# Altium integrated library Linear Technology Power Management LED Driver ICs.IntLib: 490 symbols (part 16 of 48)
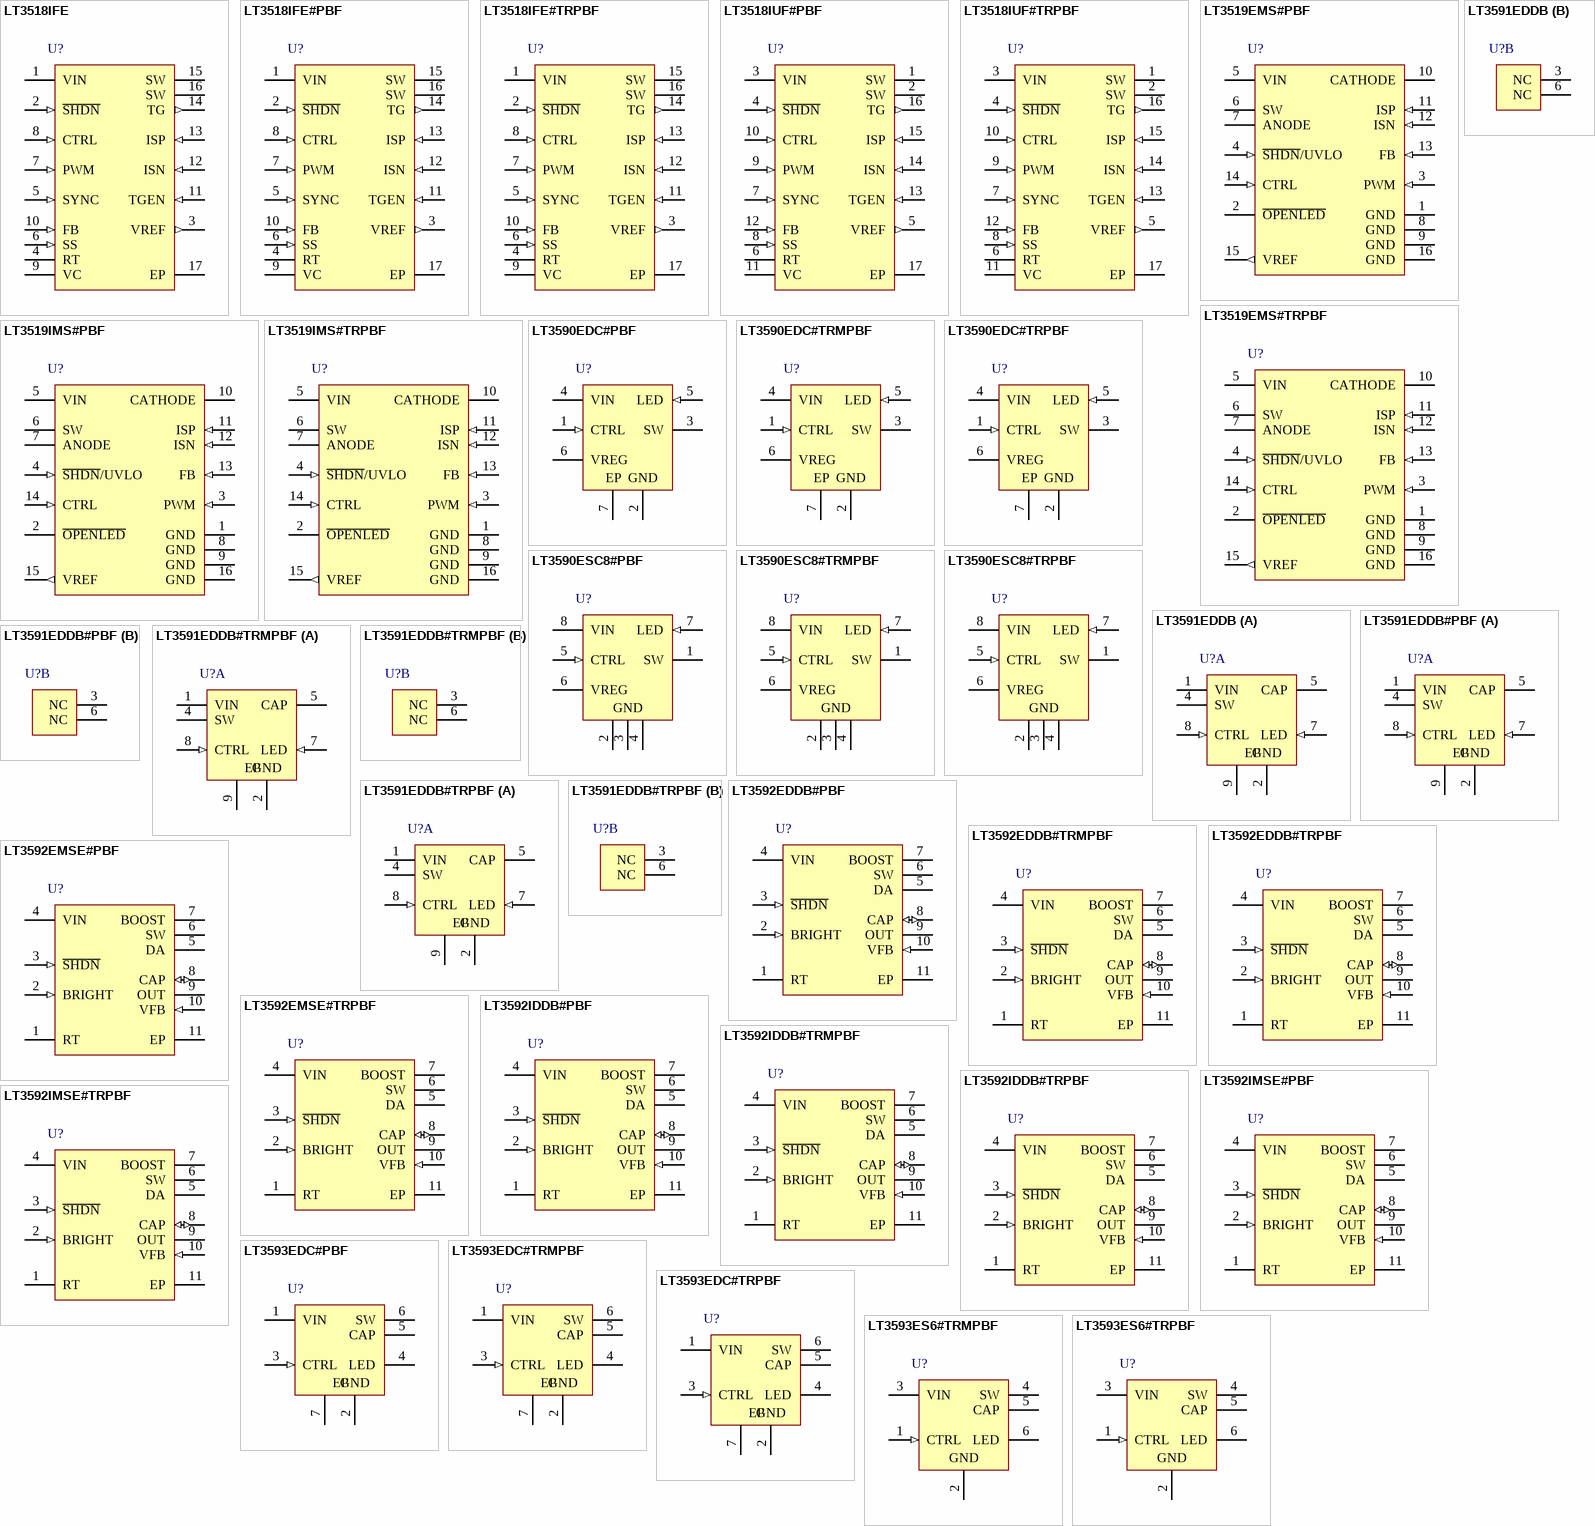
[diagram p35: symbols LT3518IFE to LT3593ES6#TRPBF]

## LT3591EDDB
designator U?
White LED Driver with Integrated Schottky, 2.5 to 12 V Vin, 42 V Vout MAX, 8-pin SON (DDB-8), -40 to 85 degC; Manufacturer: Linear Technology; PartNumber: LT3591EDDB; Topology: Boost, LED Driver; Vin Min(V): 2.5; PackageVersion: Rev. B, 06/2010; PackageReference: DDB-8; PackageDescription: 8-Pin Plastic DFN, Body 3 x 2 mm, Pitch 0.5 mm; RoHS: FALSE; Mounting Technology: Surface Mount; Code_JEDEC: MO-229; ComponentLink1Description: Manufacturer URL; ComponentLink1URL: http://www.linear.com/; ComponentLink2Description: Datasheet; ComponentLink2URL: http://cds.linear.com/docs/en/datasheet/3591f.pdf; ComponentLink3Description: Package Specification; ComponentLink3URL: http://cds.linear.com/docs/en/packaging/DFN_8_05-08-1702.pdf
footprint LT-DDB-8_V (SON, 8-Leads, Body 3x2mm, Pitch 0.5mm, Thermal Pad 2.2x0.61mm)
part A pins: 1 VIN (power) "Input Supply Pin. Must be locally bypassed.", 2 GND (power) "Ground Pin. Should be tied directly to local ground plane.", 4 SW "Switch Pin. Minimize trace area at this pin to minimize EMI. Connect the inductor at this pin.", 5 CAP (power) "Output of the Driver. This pin is connected to the cathode of internal Schottky. Connect the output capacitor to this pin and the sense resistor from this pin to the LED pin.", 7 LED (in) "Connection Point for the Anode of the First LED and the Sense Resistor.", 8 CTRL (in) "Dimming and Shutdown Pin. Connect this pin below 50mV to disable the driver. As the pin voltage is ramped from 0V to 1.5V, the LED current ramps from 0 to ILED ( = 200mV/RSENSE). The CTRL pin must not be left floating.", 9 EP (power) "Ground. The Exposed Pad must be soldered to PCB ground to achieve the rated thermal performance."
part B pins: 3 NC, 6 NC

## LT3591EDDB#PBF
designator U?
White LED Driver with Integrated Schottky, 2.5 to 12 V Vin, 42 V Vout MAX, 8-pin SON (DDB-8), -40 to 85 degC, Pb-Free; Manufacturer: Linear Technology; PartNumber: LT3591EDDB#PBF; Topology: Boost, LED Driver; Vin Min(V): 2.5; PackageVersion: Rev. B, 06/2010; PackageReference: DDB-8; PackageDescription: 8-Pin Plastic DFN, Body 3 x 2 mm, Pitch 0.5 mm; Supplier 1: Farnell; Supplier Part Number 1: 2308213; Supplier 2: Newark; Supplier Part Number 2: 78T4029; RoHS: TRUE; Mounting Technology: Surface Mount; Code_JEDEC: MO-229; ComponentLink1Description: Manufacturer URL; ComponentLink1URL: http://www.linear.com/; ComponentLink2Description: Datasheet; ComponentLink2URL: http://cds.linear.com/docs/en/datasheet/3591f.pdf; ComponentLink3Description: Package Specification; ComponentLink3URL: http://cds.linear.com/docs/en/packaging/DFN_8_05-08-1702.pdf
footprint LT-DDB-8_V (SON, 8-Leads, Body 3x2mm, Pitch 0.5mm, Thermal Pad 2.2x0.61mm)
part A pins: 1 VIN (power) "Input Supply Pin. Must be locally bypassed.", 2 GND (power) "Ground Pin. Should be tied directly to local ground plane.", 4 SW "Switch Pin. Minimize trace area at this pin to minimize EMI. Connect the inductor at this pin.", 5 CAP (power) "Output of the Driver. This pin is connected to the cathode of internal Schottky. Connect the output capacitor to this pin and the sense resistor from this pin to the LED pin.", 7 LED (in) "Connection Point for the Anode of the First LED and the Sense Resistor.", 8 CTRL (in) "Dimming and Shutdown Pin. Connect this pin below 50mV to disable the driver. As the pin voltage is ramped from 0V to 1.5V, the LED current ramps from 0 to ILED ( = 200mV/RSENSE). The CTRL pin must not be left floating.", 9 EP (power) "Ground. The Exposed Pad must be soldered to PCB ground to achieve the rated thermal performance."
part B pins: 3 NC, 6 NC

## LT3591EDDB#TRMPBF
designator U?
White LED Driver with Integrated Schottky, 2.5 to 12 V Vin, 42 V Vout MAX, 8-pin SON (DDB-8), -40 to 85 degC, Pb-Free, Mini Tape and Reel; Manufacturer: Linear Technology; PartNumber: LT3591EDDB#TRMPBF; Topology: Boost, LED Driver; Vin Min(V): 2.5; PackageVersion: Rev. B, 06/2010; PackageReference: DDB-8; PackageDescription: 8-Pin Plastic DFN, Body 3 x 2 mm, Pitch 0.5 mm; Supplier 1: Digi-Key; Supplier Part Number 1: LT3591EDDB#TRMPBFTR-ND; Supplier 2: Digi-Key; Supplier Part Number 2: LT3591EDDB#TRMPBFCT-ND; Supplier 3: Digi-Key; Supplier Part Number 3: LT3591EDDB#TRMPBFDKR-ND; Supplier 4: Farnell; Supplier Part Number 4: 1663840; Supplier 5: Farnell; Supplier Part Number 5: 1663840RL; Supplier 6: Newark; Supplier Part Number 6: 57M8538; Packing: Mini Tape and Reel; RoHS: TRUE; Mounting Technology: Surface Mount; Code_JEDEC: MO-229; ComponentLink1Description: Manufacturer URL; ComponentLink1URL: http://www.linear.com/; ComponentLink2Description: Datasheet; ComponentLink2URL: http://cds.linear.com/docs/en/datasheet/3591f.pdf; ComponentLink3Description: Package Specification; ComponentLink3URL: http://cds.linear.com/docs/en/packaging/DFN_8_05-08-1702.pdf
footprint LT-DDB-8_V (SON, 8-Leads, Body 3x2mm, Pitch 0.5mm, Thermal Pad 2.2x0.61mm)
part A pins: 1 VIN (power) "Input Supply Pin. Must be locally bypassed.", 2 GND (power) "Ground Pin. Should be tied directly to local ground plane.", 4 SW "Switch Pin. Minimize trace area at this pin to minimize EMI. Connect the inductor at this pin.", 5 CAP (power) "Output of the Driver. This pin is connected to the cathode of internal Schottky. Connect the output capacitor to this pin and the sense resistor from this pin to the LED pin.", 7 LED (in) "Connection Point for the Anode of the First LED and the Sense Resistor.", 8 CTRL (in) "Dimming and Shutdown Pin. Connect this pin below 50mV to disable the driver. As the pin voltage is ramped from 0V to 1.5V, the LED current ramps from 0 to ILED ( = 200mV/RSENSE). The CTRL pin must not be left floating.", 9 EP (power) "Ground. The Exposed Pad must be soldered to PCB ground to achieve the rated thermal performance."
part B pins: 3 NC, 6 NC

## LT3591EDDB#TRPBF
designator U?
White LED Driver with Integrated Schottky, 2.5 to 12 V Vin, 42 V Vout MAX, 8-pin SON (DDB-8), -40 to 85 degC, Pb-Free, Tape and Reel; Manufacturer: Linear Technology; PartNumber: LT3591EDDB#TRPBF; Topology: Boost, LED Driver; Vin Min(V): 2.5; PackageVersion: Rev. B, 06/2010; PackageReference: DDB-8; PackageDescription: 8-Pin Plastic DFN, Body 3 x 2 mm, Pitch 0.5 mm; Supplier 1: Digi-Key; Supplier Part Number 1: LT3591EDDB#TRPBF-ND; Supplier 2: Newark; Supplier Part Number 2: 57M8539; Packing: Tape and Reel; RoHS: TRUE; Mounting Technology: Surface Mount; Code_JEDEC: MO-229; ComponentLink1Description: Manufacturer URL; ComponentLink1URL: http://www.linear.com/; ComponentLink2Description: Datasheet; ComponentLink2URL: http://cds.linear.com/docs/en/datasheet/3591f.pdf; ComponentLink3Description: Package Specification; ComponentLink3URL: http://cds.linear.com/docs/en/packaging/DFN_8_05-08-1702.pdf
footprint LT-DDB-8_V (SON, 8-Leads, Body 3x2mm, Pitch 0.5mm, Thermal Pad 2.2x0.61mm)
part A pins: 1 VIN (power) "Input Supply Pin. Must be locally bypassed.", 2 GND (power) "Ground Pin. Should be tied directly to local ground plane.", 4 SW "Switch Pin. Minimize trace area at this pin to minimize EMI. Connect the inductor at this pin.", 5 CAP (power) "Output of the Driver. This pin is connected to the cathode of internal Schottky. Connect the output capacitor to this pin and the sense resistor from this pin to the LED pin.", 7 LED (in) "Connection Point for the Anode of the First LED and the Sense Resistor.", 8 CTRL (in) "Dimming and Shutdown Pin. Connect this pin below 50mV to disable the driver. As the pin voltage is ramped from 0V to 1.5V, the LED current ramps from 0 to ILED ( = 200mV/RSENSE). The CTRL pin must not be left floating.", 9 EP (power) "Ground. The Exposed Pad must be soldered to PCB ground to achieve the rated thermal performance."
part B pins: 3 NC, 6 NC

## LT3592EDDB#PBF
designator U?
500 mA Wide Input Voltage Range Step-Down LED Driver with 10:1 Dimming, 3.6 to 36 V Vin, 36 V Vout MAX, 10-pin SON (DDB-10), -40 to 125 degC, Pb-Free; Manufacturer: Linear Technology; PartNumber: LT3592EDDB#PBF; Topology: Buck, LED Driver; Vin Min(V): 3.6; DatasheetVersion: Rev. C; PackageVersion: Rev. Ø, 06/2010; PackageReference: DDB10; PackageDescription: 10-Pin Plastic DFN, Body 3 x 2 mm, Pitch 0.5 mm; Supplier 1: Newark; Supplier Part Number 1: 08P3453; RoHS: TRUE; Mounting Technology: Surface Mount; Code_JEDEC: MO-229; ComponentLink1Description: Manufacturer URL; ComponentLink1URL: http://www.linear.com/; ComponentLink2Description: Datasheet; ComponentLink2URL: http://cds.linear.com/docs/en/datasheet/3592fc.pdf; ComponentLink3Description: Package Specification; ComponentLink3URL: http://cds.linear.com/docs/en/packaging/DFN_10_05-08-1722.pdf
footprint LT-DDB-10_V (SON, 10-Leads, Body 3x2mm, Pitch 0.5mm, Thermal Pad 2.39x0.64mm)
pins: 1 RT "Programs the frequency of the internal oscillator. Connect a resistor from RT to ground. Refer to Table 1 or the Typical Performance Characteristics for resistor values that result in desired oscillator frequencies", 2 BRIGHT (in) "Used to program a 10:1 dimming ratio for the LED current. Drive this pin above 1.4V to command maximum intensity or below 0.3V to command minimum intensity. This pin can be PWMed at 150Hz for brightness control between the (See Datasheet)", 3 ~{SHDN} (in) "Used to shutdown the switching regulator and the internal bias circuits. This pin can be PWMed at 150Hz for brightness control", 4 VIN (power) "Supplies current to the LT3592's internal circuitry and to the internal power switches. Must be locally bypassed. For automotive applications, a pi network with a cap from VIN to GND, a series inductor connected betwee(See Datasheet)", 5 DA "Allows the external catch diode current to be sensed to prevent current runaway, such as when VIN is high and the duty cycle is very low. Connect this pin to the anode of the external catch Schottky diode.", 6 SW (power) "The SW pin is the output of the internal power switch. Connect this pin to the inductor and the cathode of the switching diode.", 7 BOOST "Provides a drive voltage, higher than the input voltage to the internal bipolar NPN power switch. BOOST will normally be tied to the SW pin through a 0.1uF capacitor. An internal Schottky is provided for the boost function (See Datasheet)", 8 CAP (io) "Output of the step-down converter and also an input to the LED current sense amplifier. Connect the filter capacitor, inductor, and the top of the external LED current sense resistor to this pin.", 9 OUT (power) "Drives the LED or LEDs and is the other input to the LED current sense amplifier. Connect this pin to the anode of the top LED in the string, the bottom of the external LED current sense resistor, and the top of the VFB (See Datasheet)", 10 VFB (in) "The feedback node for the output voltage control loop.", 11 EP (power) "Ground. The underside exposed pad metal of the package provides both electrical contact to ground and good thermal contact to the printed circuit board. The device must be soldered to the circuit board for proper operation."

## LT3592EDDB#TRMPBF
designator U?
500 mA Wide Input Voltage Range Step-Down LED Driver with 10:1 Dimming, 3.6 to 36 V Vin, 36 V Vout MAX, 10-pin SON (DDB-10), -40 to 125 degC, Pb-Free, Mini Tape and Reel; Manufacturer: Linear Technology; PartNumber: LT3592EDDB#TRMPBF; Topology: Buck, LED Driver; Vin Min(V): 3.6; DatasheetVersion: Rev. C; PackageVersion: Rev. Ø, 06/2010; PackageReference: DDB10; PackageDescription: 10-Pin Plastic DFN, Body 3 x 2 mm, Pitch 0.5 mm; Supplier 1: Digi-Key; Supplier Part Number 1: LT3592EDDB#TRMPBFTR-ND; Supplier 2: Digi-Key; Supplier Part Number 2: LT3592EDDB#TRMPBFCT-ND; Supplier 3: Digi-Key; Supplier Part Number 3: LT3592EDDB#TRMPBFDKR-ND; Supplier 4: Farnell; Supplier Part Number 4: 1715216RL; Supplier 5: Farnell; Supplier Part Number 5: 1715216; Supplier 6: Newark; Supplier Part Number 6: 19P9378; Packing: Mini Tape and Reel; RoHS: TRUE; Mounting Technology: Surface Mount; Code_JEDEC: MO-229; ComponentLink1Description: Manufacturer URL; ComponentLink1URL: http://www.linear.com/; ComponentLink2Description: Datasheet; ComponentLink2URL: http://cds.linear.com/docs/en/datasheet/3592fc.pdf; ComponentLink3Description: Package Specification; ComponentLink3URL: http://cds.linear.com/docs/en/packaging/DFN_10_05-08-1722.pdf
footprint LT-DDB-10_V (SON, 10-Leads, Body 3x2mm, Pitch 0.5mm, Thermal Pad 2.39x0.64mm)
pins: 1 RT "Programs the frequency of the internal oscillator. Connect a resistor from RT to ground. Refer to Table 1 or the Typical Performance Characteristics for resistor values that result in desired oscillator frequencies", 2 BRIGHT (in) "Used to program a 10:1 dimming ratio for the LED current. Drive this pin above 1.4V to command maximum intensity or below 0.3V to command minimum intensity. This pin can be PWMed at 150Hz for brightness control between the (See Datasheet)", 3 ~{SHDN} (in) "Used to shutdown the switching regulator and the internal bias circuits. This pin can be PWMed at 150Hz for brightness control", 4 VIN (power) "Supplies current to the LT3592's internal circuitry and to the internal power switches. Must be locally bypassed. For automotive applications, a pi network with a cap from VIN to GND, a series inductor connected betwee(See Datasheet)", 5 DA "Allows the external catch diode current to be sensed to prevent current runaway, such as when VIN is high and the duty cycle is very low. Connect this pin to the anode of the external catch Schottky diode.", 6 SW (power) "The SW pin is the output of the internal power switch. Connect this pin to the inductor and the cathode of the switching diode.", 7 BOOST "Provides a drive voltage, higher than the input voltage to the internal bipolar NPN power switch. BOOST will normally be tied to the SW pin through a 0.1uF capacitor. An internal Schottky is provided for the boost function (See Datasheet)", 8 CAP (io) "Output of the step-down converter and also an input to the LED current sense amplifier. Connect the filter capacitor, inductor, and the top of the external LED current sense resistor to this pin.", 9 OUT (power) "Drives the LED or LEDs and is the other input to the LED current sense amplifier. Connect this pin to the anode of the top LED in the string, the bottom of the external LED current sense resistor, and the top of the VFB (See Datasheet)", 10 VFB (in) "The feedback node for the output voltage control loop.", 11 EP (power) "Ground. The underside exposed pad metal of the package provides both electrical contact to ground and good thermal contact to the printed circuit board. The device must be soldered to the circuit board for proper operation."

## LT3592EDDB#TRPBF
designator U?
500 mA Wide Input Voltage Range Step-Down LED Driver with 10:1 Dimming, 3.6 to 36 V Vin, 36 V Vout MAX, 10-pin SON (DDB-10), -40 to 125 degC, Pb-Free, Tape and Reel; Manufacturer: Linear Technology; PartNumber: LT3592EDDB#TRPBF; Topology: Buck, LED Driver; Vin Min(V): 3.6; DatasheetVersion: Rev. C; PackageVersion: Rev. Ø, 06/2010; PackageReference: DDB10; PackageDescription: 10-Pin Plastic DFN, Body 3 x 2 mm, Pitch 0.5 mm; Supplier 1: Digi-Key; Supplier Part Number 1: LT3592EDDB#TRPBF-ND; Packing: Tape and Reel; RoHS: TRUE; Mounting Technology: Surface Mount; Code_JEDEC: MO-229; ComponentLink1Description: Manufacturer URL; ComponentLink1URL: http://www.linear.com/; ComponentLink2Description: Datasheet; ComponentLink2URL: http://cds.linear.com/docs/en/datasheet/3592fc.pdf; ComponentLink3Description: Package Specification; ComponentLink3URL: http://cds.linear.com/docs/en/packaging/DFN_10_05-08-1722.pdf
footprint LT-DDB-10_V (SON, 10-Leads, Body 3x2mm, Pitch 0.5mm, Thermal Pad 2.39x0.64mm)
pins: 1 RT "Programs the frequency of the internal oscillator. Connect a resistor from RT to ground. Refer to Table 1 or the Typical Performance Characteristics for resistor values that result in desired oscillator frequencies", 2 BRIGHT (in) "Used to program a 10:1 dimming ratio for the LED current. Drive this pin above 1.4V to command maximum intensity or below 0.3V to command minimum intensity. This pin can be PWMed at 150Hz for brightness control between the (See Datasheet)", 3 ~{SHDN} (in) "Used to shutdown the switching regulator and the internal bias circuits. This pin can be PWMed at 150Hz for brightness control", 4 VIN (power) "Supplies current to the LT3592's internal circuitry and to the internal power switches. Must be locally bypassed. For automotive applications, a pi network with a cap from VIN to GND, a series inductor connected betwee(See Datasheet)", 5 DA "Allows the external catch diode current to be sensed to prevent current runaway, such as when VIN is high and the duty cycle is very low. Connect this pin to the anode of the external catch Schottky diode.", 6 SW (power) "The SW pin is the output of the internal power switch. Connect this pin to the inductor and the cathode of the switching diode.", 7 BOOST "Provides a drive voltage, higher than the input voltage to the internal bipolar NPN power switch. BOOST will normally be tied to the SW pin through a 0.1uF capacitor. An internal Schottky is provided for the boost function (See Datasheet)", 8 CAP (io) "Output of the step-down converter and also an input to the LED current sense amplifier. Connect the filter capacitor, inductor, and the top of the external LED current sense resistor to this pin.", 9 OUT (power) "Drives the LED or LEDs and is the other input to the LED current sense amplifier. Connect this pin to the anode of the top LED in the string, the bottom of the external LED current sense resistor, and the top of the VFB (See Datasheet)", 10 VFB (in) "The feedback node for the output voltage control loop.", 11 EP (power) "Ground. The underside exposed pad metal of the package provides both electrical contact to ground and good thermal contact to the printed circuit board. The device must be soldered to the circuit board for proper operation."

## LT3592EMSE#PBF
designator U?
500 mA Wide Input Voltage Range Step-Down LED Driver with 10:1 Dimming, 3.6 to 36 V Vin, 36 V Vout MAX, 10-pin SOP (MSE-10-EDP), -40 to 125 degC, Pb-Free; Manufacturer: Linear Technology; PartNumber: LT3592EMSE#PBF; Topology: Buck, LED Driver; Vin Min(V): 3.6; DatasheetVersion: Rev. C; PackageVersion: Rev. C, 08/2009; PackageReference: MSE-10; PackageDescription: 10-Pin Plastic MSOP, Exposed Die Pad, Body 3 x 3 mm, Pitch 0.5 mm; Supplier 1: Digi-Key; Supplier Part Number 1: LT3592EMSE#PBF-ND; Supplier 2: Farnell; Supplier Part Number 2: 1659974; Supplier 3: Newark; Supplier Part Number 3: 08P3454; RoHS: TRUE; Mounting Technology: Surface Mount; ComponentLink1Description: Manufacturer URL; ComponentLink1URL: http://www.linear.com/; ComponentLink2Description: Datasheet; ComponentLink2URL: http://cds.linear.com/docs/en/datasheet/3592fc.pdf; ComponentLink3Description: Package Specification; ComponentLink3URL: http://cds.linear.com/docs/en/datasheet/3481fc.pdf
footprint LT-MSE-10-EDP-2060x1830TP_N (SOP, 10-Leads, Body 3.1x3.1mm, Pitch 0.5mm, Thermal Pad 2.17x1.94mm, IPC Medium Density)
footprint LT-MSE-10-EDP-2060x1830TP_L (SOP, 10-Leads, Body 3.1x3.1mm, Pitch 0.5mm, Thermal Pad 2.17x1.94mm, IPC High Density)
footprint LT-MSE-10-EDP-2060x1830TP_M (SOP, 10-Leads, Body 3.1x3.1mm, Pitch 0.5mm, Thermal Pad 2.17x1.94mm, IPC Low Density)
pins: 1 RT "Programs the frequency of the internal oscillator. Connect a resistor from RT to ground. Refer to Table 1 or the Typical Performance Characteristics for resistor values that result in desired oscillator frequencies", 2 BRIGHT (in) "Used to program a 10:1 dimming ratio for the LED current. Drive this pin above 1.4V to command maximum intensity or below 0.3V to command minimum intensity. This pin can be PWMed at 150Hz for brightness control between the (See Datasheet)", 3 ~{SHDN} (in) "Used to shutdown the switching regulator and the internal bias circuits. This pin can be PWMed at 150Hz for brightness control", 4 VIN (power) "Supplies current to the LT3592's internal circuitry and to the internal power switches. Must be locally bypassed. For automotive applications, a pi network with a cap from VIN to GND, a series inductor connected betwee(See Datasheet)", 5 DA "Allows the external catch diode current to be sensed to prevent current runaway, such as when VIN is high and the duty cycle is very low. Connect this pin to the anode of the external catch Schottky diode.", 6 SW (power) "The SW pin is the output of the internal power switch. Connect this pin to the inductor and the cathode of the switching diode.", 7 BOOST "Provides a drive voltage, higher than the input voltage to the internal bipolar NPN power switch. BOOST will normally be tied to the SW pin through a 0.1uF capacitor. An internal Schottky is provided for the boost function (See Datasheet)", 8 CAP (io) "Output of the step-down converter and also an input to the LED current sense amplifier. Connect the filter capacitor, inductor, and the top of the external LED current sense resistor to this pin.", 9 OUT (power) "Drives the LED or LEDs and is the other input to the LED current sense amplifier. Connect this pin to the anode of the top LED in the string, the bottom of the external LED current sense resistor, and the top of the VFB (See Datasheet)", 10 VFB (in) "The feedback node for the output voltage control loop.", 11 EP (power) "Ground. The underside exposed pad metal of the package provides both electrical contact to ground and good thermal contact to the printed circuit board. The device must be soldered to the circuit board for proper operation."

## LT3592EMSE#TRPBF
designator U?
500 mA Wide Input Voltage Range Step-Down LED Driver with 10:1 Dimming, 3.6 to 36 V Vin, 36 V Vout MAX, 10-pin SOP (MSE-10-EDP), -40 to 125 degC, Pb-Free, Tape and Reel; Manufacturer: Linear Technology; PartNumber: LT3592EMSE#TRPBF; Topology: Buck, LED Driver; Vin Min(V): 3.6; DatasheetVersion: Rev. C; PackageVersion: Rev. C, 08/2009; PackageReference: MSE-10; PackageDescription: 10-Pin Plastic MSOP, Exposed Die Pad, Body 3 x 3 mm, Pitch 0.5 mm; Supplier 1: Digi-Key; Supplier Part Number 1: LT3592EMSE#TRPBF-ND; Packing: Tape and Reel; RoHS: TRUE; Mounting Technology: Surface Mount; ComponentLink1Description: Manufacturer URL; ComponentLink1URL: http://www.linear.com/; ComponentLink2Description: Datasheet; ComponentLink2URL: http://cds.linear.com/docs/en/datasheet/3592fc.pdf; ComponentLink3Description: Package Specification; ComponentLink3URL: http://cds.linear.com/docs/en/datasheet/3481fc.pdf
footprint LT-MSE-10-EDP-2060x1830TP_N (SOP, 10-Leads, Body 3.1x3.1mm, Pitch 0.5mm, Thermal Pad 2.17x1.94mm, IPC Medium Density)
footprint LT-MSE-10-EDP-2060x1830TP_L (SOP, 10-Leads, Body 3.1x3.1mm, Pitch 0.5mm, Thermal Pad 2.17x1.94mm, IPC High Density)
footprint LT-MSE-10-EDP-2060x1830TP_M (SOP, 10-Leads, Body 3.1x3.1mm, Pitch 0.5mm, Thermal Pad 2.17x1.94mm, IPC Low Density)
pins: 1 RT "Programs the frequency of the internal oscillator. Connect a resistor from RT to ground. Refer to Table 1 or the Typical Performance Characteristics for resistor values that result in desired oscillator frequencies", 2 BRIGHT (in) "Used to program a 10:1 dimming ratio for the LED current. Drive this pin above 1.4V to command maximum intensity or below 0.3V to command minimum intensity. This pin can be PWMed at 150Hz for brightness control between the (See Datasheet)", 3 ~{SHDN} (in) "Used to shutdown the switching regulator and the internal bias circuits. This pin can be PWMed at 150Hz for brightness control", 4 VIN (power) "Supplies current to the LT3592's internal circuitry and to the internal power switches. Must be locally bypassed. For automotive applications, a pi network with a cap from VIN to GND, a series inductor connected betwee(See Datasheet)", 5 DA "Allows the external catch diode current to be sensed to prevent current runaway, such as when VIN is high and the duty cycle is very low. Connect this pin to the anode of the external catch Schottky diode.", 6 SW (power) "The SW pin is the output of the internal power switch. Connect this pin to the inductor and the cathode of the switching diode.", 7 BOOST "Provides a drive voltage, higher than the input voltage to the internal bipolar NPN power switch. BOOST will normally be tied to the SW pin through a 0.1uF capacitor. An internal Schottky is provided for the boost function (See Datasheet)", 8 CAP (io) "Output of the step-down converter and also an input to the LED current sense amplifier. Connect the filter capacitor, inductor, and the top of the external LED current sense resistor to this pin.", 9 OUT (power) "Drives the LED or LEDs and is the other input to the LED current sense amplifier. Connect this pin to the anode of the top LED in the string, the bottom of the external LED current sense resistor, and the top of the VFB (See Datasheet)", 10 VFB (in) "The feedback node for the output voltage control loop.", 11 EP (power) "Ground. The underside exposed pad metal of the package provides both electrical contact to ground and good thermal contact to the printed circuit board. The device must be soldered to the circuit board for proper operation."

## LT3592IDDB#PBF
designator U?
500 mA Wide Input Voltage Range Step-Down LED Driver with 10:1 Dimming, 3.6 to 36 V Vin, 36 V Vout MAX, 10-pin SON (DDB-10), -40 to 125 degC, Pb-Free; Manufacturer: Linear Technology; PartNumber: LT3592IDDB#PBF; Topology: Buck, LED Driver; Vin Min(V): 3.6; DatasheetVersion: Rev. C; PackageVersion: Rev. Ø, 06/2010; PackageReference: DDB10; PackageDescription: 10-Pin Plastic DFN, Body 3 x 2 mm, Pitch 0.5 mm; RoHS: TRUE; Mounting Technology: Surface Mount; Code_JEDEC: MO-229; ComponentLink1Description: Manufacturer URL; ComponentLink1URL: http://www.linear.com/; ComponentLink2Description: Datasheet; ComponentLink2URL: http://cds.linear.com/docs/en/datasheet/3592fc.pdf; ComponentLink3Description: Package Specification; ComponentLink3URL: http://cds.linear.com/docs/en/packaging/DFN_10_05-08-1722.pdf
footprint LT-DDB-10_V (SON, 10-Leads, Body 3x2mm, Pitch 0.5mm, Thermal Pad 2.39x0.64mm)
pins: 1 RT "Programs the frequency of the internal oscillator. Connect a resistor from RT to ground. Refer to Table 1 or the Typical Performance Characteristics for resistor values that result in desired oscillator frequencies", 2 BRIGHT (in) "Used to program a 10:1 dimming ratio for the LED current. Drive this pin above 1.4V to command maximum intensity or below 0.3V to command minimum intensity. This pin can be PWMed at 150Hz for brightness control between the (See Datasheet)", 3 ~{SHDN} (in) "Used to shutdown the switching regulator and the internal bias circuits. This pin can be PWMed at 150Hz for brightness control", 4 VIN (power) "Supplies current to the LT3592's internal circuitry and to the internal power switches. Must be locally bypassed. For automotive applications, a pi network with a cap from VIN to GND, a series inductor connected betwee(See Datasheet)", 5 DA "Allows the external catch diode current to be sensed to prevent current runaway, such as when VIN is high and the duty cycle is very low. Connect this pin to the anode of the external catch Schottky diode.", 6 SW (power) "The SW pin is the output of the internal power switch. Connect this pin to the inductor and the cathode of the switching diode.", 7 BOOST "Provides a drive voltage, higher than the input voltage to the internal bipolar NPN power switch. BOOST will normally be tied to the SW pin through a 0.1uF capacitor. An internal Schottky is provided for the boost function (See Datasheet)", 8 CAP (io) "Output of the step-down converter and also an input to the LED current sense amplifier. Connect the filter capacitor, inductor, and the top of the external LED current sense resistor to this pin.", 9 OUT (power) "Drives the LED or LEDs and is the other input to the LED current sense amplifier. Connect this pin to the anode of the top LED in the string, the bottom of the external LED current sense resistor, and the top of the VFB (See Datasheet)", 10 VFB (in) "The feedback node for the output voltage control loop.", 11 EP (power) "Ground. The underside exposed pad metal of the package provides both electrical contact to ground and good thermal contact to the printed circuit board. The device must be soldered to the circuit board for proper operation."

## LT3592IDDB#TRMPBF
designator U?
500 mA Wide Input Voltage Range Step-Down LED Driver with 10:1 Dimming, 3.6 to 36 V Vin, 36 V Vout MAX, 10-pin SON (DDB-10), -40 to 125 degC, Pb-Free, Mini Tape and Reel; Manufacturer: Linear Technology; PartNumber: LT3592IDDB#TRMPBF; Topology: Buck, LED Driver; Vin Min(V): 3.6; DatasheetVersion: Rev. C; PackageVersion: Rev. Ø, 06/2010; PackageReference: DDB10; PackageDescription: 10-Pin Plastic DFN, Body 3 x 2 mm, Pitch 0.5 mm; Supplier 1: Digi-Key; Supplier Part Number 1: LT3592IDDB#TRMPBF-ND; Packing: Mini Tape and Reel; RoHS: TRUE; Mounting Technology: Surface Mount; Code_JEDEC: MO-229; ComponentLink1Description: Manufacturer URL; ComponentLink1URL: http://www.linear.com/; ComponentLink2Description: Datasheet; ComponentLink2URL: http://cds.linear.com/docs/en/datasheet/3592fc.pdf; ComponentLink3Description: Package Specification; ComponentLink3URL: http://cds.linear.com/docs/en/packaging/DFN_10_05-08-1722.pdf
footprint LT-DDB-10_V (SON, 10-Leads, Body 3x2mm, Pitch 0.5mm, Thermal Pad 2.39x0.64mm)
pins: 1 RT "Programs the frequency of the internal oscillator. Connect a resistor from RT to ground. Refer to Table 1 or the Typical Performance Characteristics for resistor values that result in desired oscillator frequencies", 2 BRIGHT (in) "Used to program a 10:1 dimming ratio for the LED current. Drive this pin above 1.4V to command maximum intensity or below 0.3V to command minimum intensity. This pin can be PWMed at 150Hz for brightness control between the (See Datasheet)", 3 ~{SHDN} (in) "Used to shutdown the switching regulator and the internal bias circuits. This pin can be PWMed at 150Hz for brightness control", 4 VIN (power) "Supplies current to the LT3592's internal circuitry and to the internal power switches. Must be locally bypassed. For automotive applications, a pi network with a cap from VIN to GND, a series inductor connected betwee(See Datasheet)", 5 DA "Allows the external catch diode current to be sensed to prevent current runaway, such as when VIN is high and the duty cycle is very low. Connect this pin to the anode of the external catch Schottky diode.", 6 SW (power) "The SW pin is the output of the internal power switch. Connect this pin to the inductor and the cathode of the switching diode.", 7 BOOST "Provides a drive voltage, higher than the input voltage to the internal bipolar NPN power switch. BOOST will normally be tied to the SW pin through a 0.1uF capacitor. An internal Schottky is provided for the boost function (See Datasheet)", 8 CAP (io) "Output of the step-down converter and also an input to the LED current sense amplifier. Connect the filter capacitor, inductor, and the top of the external LED current sense resistor to this pin.", 9 OUT (power) "Drives the LED or LEDs and is the other input to the LED current sense amplifier. Connect this pin to the anode of the top LED in the string, the bottom of the external LED current sense resistor, and the top of the VFB (See Datasheet)", 10 VFB (in) "The feedback node for the output voltage control loop.", 11 EP (power) "Ground. The underside exposed pad metal of the package provides both electrical contact to ground and good thermal contact to the printed circuit board. The device must be soldered to the circuit board for proper operation."

## LT3592IDDB#TRPBF
designator U?
500 mA Wide Input Voltage Range Step-Down LED Driver with 10:1 Dimming, 3.6 to 36 V Vin, 36 V Vout MAX, 10-pin SON (DDB-10), -40 to 125 degC, Pb-Free, Tape and Reel; Manufacturer: Linear Technology; PartNumber: LT3592IDDB#TRPBF; Topology: Buck, LED Driver; Vin Min(V): 3.6; DatasheetVersion: Rev. C; PackageVersion: Rev. Ø, 06/2010; PackageReference: DDB10; PackageDescription: 10-Pin Plastic DFN, Body 3 x 2 mm, Pitch 0.5 mm; Supplier 1: Digi-Key; Supplier Part Number 1: LT3592IDDB#TRPBF-ND; Packing: Tape and Reel; RoHS: TRUE; Mounting Technology: Surface Mount; Code_JEDEC: MO-229; ComponentLink1Description: Manufacturer URL; ComponentLink1URL: http://www.linear.com/; ComponentLink2Description: Datasheet; ComponentLink2URL: http://cds.linear.com/docs/en/datasheet/3592fc.pdf; ComponentLink3Description: Package Specification; ComponentLink3URL: http://cds.linear.com/docs/en/packaging/DFN_10_05-08-1722.pdf
footprint LT-DDB-10_V (SON, 10-Leads, Body 3x2mm, Pitch 0.5mm, Thermal Pad 2.39x0.64mm)
pins: 1 RT "Programs the frequency of the internal oscillator. Connect a resistor from RT to ground. Refer to Table 1 or the Typical Performance Characteristics for resistor values that result in desired oscillator frequencies", 2 BRIGHT (in) "Used to program a 10:1 dimming ratio for the LED current. Drive this pin above 1.4V to command maximum intensity or below 0.3V to command minimum intensity. This pin can be PWMed at 150Hz for brightness control between the (See Datasheet)", 3 ~{SHDN} (in) "Used to shutdown the switching regulator and the internal bias circuits. This pin can be PWMed at 150Hz for brightness control", 4 VIN (power) "Supplies current to the LT3592's internal circuitry and to the internal power switches. Must be locally bypassed. For automotive applications, a pi network with a cap from VIN to GND, a series inductor connected betwee(See Datasheet)", 5 DA "Allows the external catch diode current to be sensed to prevent current runaway, such as when VIN is high and the duty cycle is very low. Connect this pin to the anode of the external catch Schottky diode.", 6 SW (power) "The SW pin is the output of the internal power switch. Connect this pin to the inductor and the cathode of the switching diode.", 7 BOOST "Provides a drive voltage, higher than the input voltage to the internal bipolar NPN power switch. BOOST will normally be tied to the SW pin through a 0.1uF capacitor. An internal Schottky is provided for the boost function (See Datasheet)", 8 CAP (io) "Output of the step-down converter and also an input to the LED current sense amplifier. Connect the filter capacitor, inductor, and the top of the external LED current sense resistor to this pin.", 9 OUT (power) "Drives the LED or LEDs and is the other input to the LED current sense amplifier. Connect this pin to the anode of the top LED in the string, the bottom of the external LED current sense resistor, and the top of the VFB (See Datasheet)", 10 VFB (in) "The feedback node for the output voltage control loop.", 11 EP (power) "Ground. The underside exposed pad metal of the package provides both electrical contact to ground and good thermal contact to the printed circuit board. The device must be soldered to the circuit board for proper operation."

## LT3592IMSE#PBF
designator U?
500 mA Wide Input Voltage Range Step-Down LED Driver with 10:1 Dimming, 3.6 to 36 V Vin, 36 V Vout MAX, 10-pin SOP (MSE-10-EDP), -40 to 125 degC, Pb-Free; Manufacturer: Linear Technology; PartNumber: LT3592IMSE#PBF; Topology: Buck, LED Driver; Vin Min(V): 3.6; DatasheetVersion: Rev. C; PackageVersion: Rev. C, 08/2009; PackageReference: MSE-10; PackageDescription: 10-Pin Plastic MSOP, Exposed Die Pad, Body 3 x 3 mm, Pitch 0.5 mm; Supplier 1: Digi-Key; Supplier Part Number 1: LT3592IMSE#PBF-ND; RoHS: TRUE; Mounting Technology: Surface Mount; ComponentLink1Description: Manufacturer URL; ComponentLink1URL: http://www.linear.com/; ComponentLink2Description: Datasheet; ComponentLink2URL: http://cds.linear.com/docs/en/datasheet/3592fc.pdf; ComponentLink3Description: Package Specification; ComponentLink3URL: http://cds.linear.com/docs/en/datasheet/3481fc.pdf
footprint LT-MSE-10-EDP-2060x1830TP_N (SOP, 10-Leads, Body 3.1x3.1mm, Pitch 0.5mm, Thermal Pad 2.17x1.94mm, IPC Medium Density)
footprint LT-MSE-10-EDP-2060x1830TP_L (SOP, 10-Leads, Body 3.1x3.1mm, Pitch 0.5mm, Thermal Pad 2.17x1.94mm, IPC High Density)
footprint LT-MSE-10-EDP-2060x1830TP_M (SOP, 10-Leads, Body 3.1x3.1mm, Pitch 0.5mm, Thermal Pad 2.17x1.94mm, IPC Low Density)
pins: 1 RT "Programs the frequency of the internal oscillator. Connect a resistor from RT to ground. Refer to Table 1 or the Typical Performance Characteristics for resistor values that result in desired oscillator frequencies", 2 BRIGHT (in) "Used to program a 10:1 dimming ratio for the LED current. Drive this pin above 1.4V to command maximum intensity or below 0.3V to command minimum intensity. This pin can be PWMed at 150Hz for brightness control between the (See Datasheet)", 3 ~{SHDN} (in) "Used to shutdown the switching regulator and the internal bias circuits. This pin can be PWMed at 150Hz for brightness control", 4 VIN (power) "Supplies current to the LT3592's internal circuitry and to the internal power switches. Must be locally bypassed. For automotive applications, a pi network with a cap from VIN to GND, a series inductor connected betwee(See Datasheet)", 5 DA "Allows the external catch diode current to be sensed to prevent current runaway, such as when VIN is high and the duty cycle is very low. Connect this pin to the anode of the external catch Schottky diode.", 6 SW (power) "The SW pin is the output of the internal power switch. Connect this pin to the inductor and the cathode of the switching diode.", 7 BOOST "Provides a drive voltage, higher than the input voltage to the internal bipolar NPN power switch. BOOST will normally be tied to the SW pin through a 0.1uF capacitor. An internal Schottky is provided for the boost function (See Datasheet)", 8 CAP (io) "Output of the step-down converter and also an input to the LED current sense amplifier. Connect the filter capacitor, inductor, and the top of the external LED current sense resistor to this pin.", 9 OUT (power) "Drives the LED or LEDs and is the other input to the LED current sense amplifier. Connect this pin to the anode of the top LED in the string, the bottom of the external LED current sense resistor, and the top of the VFB (See Datasheet)", 10 VFB (in) "The feedback node for the output voltage control loop.", 11 EP (power) "Ground. The underside exposed pad metal of the package provides both electrical contact to ground and good thermal contact to the printed circuit board. The device must be soldered to the circuit board for proper operation."

## LT3592IMSE#TRPBF
designator U?
500 mA Wide Input Voltage Range Step-Down LED Driver with 10:1 Dimming, 3.6 to 36 V Vin, 36 V Vout MAX, 10-pin SOP (MSE-10-EDP), -40 to 125 degC, Pb-Free, Tape and Reel; Manufacturer: Linear Technology; PartNumber: LT3592IMSE#TRPBF; Topology: Buck, LED Driver; Vin Min(V): 3.6; DatasheetVersion: Rev. C; PackageVersion: Rev. C, 08/2009; PackageReference: MSE-10; PackageDescription: 10-Pin Plastic MSOP, Exposed Die Pad, Body 3 x 3 mm, Pitch 0.5 mm; Supplier 1: Digi-Key; Supplier Part Number 1: LT3592IMSE#TRPBF-ND; Packing: Tape and Reel; RoHS: TRUE; Mounting Technology: Surface Mount; ComponentLink1Description: Manufacturer URL; ComponentLink1URL: http://www.linear.com/; ComponentLink2Description: Datasheet; ComponentLink2URL: http://cds.linear.com/docs/en/datasheet/3592fc.pdf; ComponentLink3Description: Package Specification; ComponentLink3URL: http://cds.linear.com/docs/en/datasheet/3481fc.pdf
footprint LT-MSE-10-EDP-2060x1830TP_N (SOP, 10-Leads, Body 3.1x3.1mm, Pitch 0.5mm, Thermal Pad 2.17x1.94mm, IPC Medium Density)
footprint LT-MSE-10-EDP-2060x1830TP_L (SOP, 10-Leads, Body 3.1x3.1mm, Pitch 0.5mm, Thermal Pad 2.17x1.94mm, IPC High Density)
footprint LT-MSE-10-EDP-2060x1830TP_M (SOP, 10-Leads, Body 3.1x3.1mm, Pitch 0.5mm, Thermal Pad 2.17x1.94mm, IPC Low Density)
pins: 1 RT "Programs the frequency of the internal oscillator. Connect a resistor from RT to ground. Refer to Table 1 or the Typical Performance Characteristics for resistor values that result in desired oscillator frequencies", 2 BRIGHT (in) "Used to program a 10:1 dimming ratio for the LED current. Drive this pin above 1.4V to command maximum intensity or below 0.3V to command minimum intensity. This pin can be PWMed at 150Hz for brightness control between the (See Datasheet)", 3 ~{SHDN} (in) "Used to shutdown the switching regulator and the internal bias circuits. This pin can be PWMed at 150Hz for brightness control", 4 VIN (power) "Supplies current to the LT3592's internal circuitry and to the internal power switches. Must be locally bypassed. For automotive applications, a pi network with a cap from VIN to GND, a series inductor connected betwee(See Datasheet)", 5 DA "Allows the external catch diode current to be sensed to prevent current runaway, such as when VIN is high and the duty cycle is very low. Connect this pin to the anode of the external catch Schottky diode.", 6 SW (power) "The SW pin is the output of the internal power switch. Connect this pin to the inductor and the cathode of the switching diode.", 7 BOOST "Provides a drive voltage, higher than the input voltage to the internal bipolar NPN power switch. BOOST will normally be tied to the SW pin through a 0.1uF capacitor. An internal Schottky is provided for the boost function (See Datasheet)", 8 CAP (io) "Output of the step-down converter and also an input to the LED current sense amplifier. Connect the filter capacitor, inductor, and the top of the external LED current sense resistor to this pin.", 9 OUT (power) "Drives the LED or LEDs and is the other input to the LED current sense amplifier. Connect this pin to the anode of the top LED in the string, the bottom of the external LED current sense resistor, and the top of the VFB (See Datasheet)", 10 VFB (in) "The feedback node for the output voltage control loop.", 11 EP (power) "Ground. The underside exposed pad metal of the package provides both electrical contact to ground and good thermal contact to the printed circuit board. The device must be soldered to the circuit board for proper operation."

## LT3593EDC#PBF
designator U?
1 MHz White LED Driver with Output Disconnect and One Pin Current Programming, 2.7 to 5.5 V Vin, 45 V Vout MAX, 6-pin SON (DC6-6), -40 to 85 degC, Pb-Free; Manufacturer: Linear Technology; PartNumber: LT3593EDC#PBF; Topology: Boost, LED Driver; Vin Min(V): 2.7; PackageVersion: Rev. B, 06/2010; PackageReference: DC6-6; PackageDescription: 6-Pin Plastic DFN, Body 2 x 2 mm, Pitch 0.5 mm; RoHS: TRUE; Mounting Technology: Surface Mount; Code_JEDEC: MO-229; ComponentLink1Description: Manufacturer URL; ComponentLink1URL: http://www.linear.com/; ComponentLink2Description: Datasheet; ComponentLink2URL: http://cds.linear.com/docs/en/datasheet/3593f.pdf; ComponentLink3Description: Package Specification; ComponentLink3URL: http://cds.linear.com/docs/en/packaging/DFN_6_05-08-1703.pdf
footprint LT-DC6-6_V (SON, 6-Leads, Body 2x2mm, Pitch 0.5mm, Thermal Pad 1.42x0.61mm)
pins: 1 VIN (power) "Input Supply Pin. Must be locally bypassed with a 1uF X5R or X7R type ceramic capacitor.", 2 GND (power) "Ground Pin. Connect directly to local ground plane", 3 CTRL (in) "Current Control and Shutdown Pin.This pin is used to program the LED output current. This pin is strobed up to 32 times to decrement the internal 5-bit dacs from full-scale to 1LSB. The counter will stop at 1LSB if the (See Datasheet)", 4 LED (power) "LED Pin. An internal switch connects this pin to CAP. The top of the LED string is connected to this pin. When the part is in shutdown, the LED pin is switched off from CAP so no current runs through the leds. The switch is (See Datasheet)", 5 CAP "Output Pin. Connect to output capacitor.Minimize trace between this pin and output capacitor to reduce EMI", 6 SW "Switch Pin. Connect inductor between this pin and the VIN pin. Minimize inductance at this pin to minimize EMI", 7 EP (power) "Ground. The Exposed Pad must be soldered to the PCB."

## LT3593EDC#TRMPBF
designator U?
1 MHz White LED Driver with Output Disconnect and One Pin Current Programming, 2.7 to 5.5 V Vin, 45 V Vout MAX, 6-pin SON (DC6-6), -40 to 85 degC, Pb-Free, Mini Tape and Reel; Manufacturer: Linear Technology; PartNumber: LT3593EDC#TRMPBF; Topology: Boost, LED Driver; Vin Min(V): 2.7; PackageVersion: Rev. B, 06/2010; PackageReference: DC6-6; PackageDescription: 6-Pin Plastic DFN, Body 2 x 2 mm, Pitch 0.5 mm; Supplier 1: Digi-Key; Supplier Part Number 1: LT3593EDC#TRMPBF-ND; Supplier 2: Newark; Supplier Part Number 2: 14N8614; Packing: Mini Tape and Reel; RoHS: TRUE; Mounting Technology: Surface Mount; Code_JEDEC: MO-229; ComponentLink1Description: Manufacturer URL; ComponentLink1URL: http://www.linear.com/; ComponentLink2Description: Datasheet; ComponentLink2URL: http://cds.linear.com/docs/en/datasheet/3593f.pdf; ComponentLink3Description: Package Specification; ComponentLink3URL: http://cds.linear.com/docs/en/packaging/DFN_6_05-08-1703.pdf
footprint LT-DC6-6_V (SON, 6-Leads, Body 2x2mm, Pitch 0.5mm, Thermal Pad 1.42x0.61mm)
pins: 1 VIN (power) "Input Supply Pin. Must be locally bypassed with a 1uF X5R or X7R type ceramic capacitor.", 2 GND (power) "Ground Pin. Connect directly to local ground plane", 3 CTRL (in) "Current Control and Shutdown Pin.This pin is used to program the LED output current. This pin is strobed up to 32 times to decrement the internal 5-bit dacs from full-scale to 1LSB. The counter will stop at 1LSB if the (See Datasheet)", 4 LED (power) "LED Pin. An internal switch connects this pin to CAP. The top of the LED string is connected to this pin. When the part is in shutdown, the LED pin is switched off from CAP so no current runs through the leds. The switch is (See Datasheet)", 5 CAP "Output Pin. Connect to output capacitor.Minimize trace between this pin and output capacitor to reduce EMI", 6 SW "Switch Pin. Connect inductor between this pin and the VIN pin. Minimize inductance at this pin to minimize EMI", 7 EP (power) "Ground. The Exposed Pad must be soldered to the PCB."

## LT3593EDC#TRPBF
designator U?
1 MHz White LED Driver with Output Disconnect and One Pin Current Programming, 2.7 to 5.5 V Vin, 45 V Vout MAX, 6-pin SON (DC6-6), -40 to 85 degC, Pb-Free, Tape and Reel; Manufacturer: Linear Technology; PartNumber: LT3593EDC#TRPBF; Topology: Boost, LED Driver; Vin Min(V): 2.7; PackageVersion: Rev. B, 06/2010; PackageReference: DC6-6; PackageDescription: 6-Pin Plastic DFN, Body 2 x 2 mm, Pitch 0.5 mm; Supplier 1: Digi-Key; Supplier Part Number 1: LT3593EDC#TRPBF-ND; Packing: Tape and Reel; RoHS: TRUE; Mounting Technology: Surface Mount; Code_JEDEC: MO-229; ComponentLink1Description: Manufacturer URL; ComponentLink1URL: http://www.linear.com/; ComponentLink2Description: Datasheet; ComponentLink2URL: http://cds.linear.com/docs/en/datasheet/3593f.pdf; ComponentLink3Description: Package Specification; ComponentLink3URL: http://cds.linear.com/docs/en/packaging/DFN_6_05-08-1703.pdf
footprint LT-DC6-6_V (SON, 6-Leads, Body 2x2mm, Pitch 0.5mm, Thermal Pad 1.42x0.61mm)
pins: 1 VIN (power) "Input Supply Pin. Must be locally bypassed with a 1uF X5R or X7R type ceramic capacitor.", 2 GND (power) "Ground Pin. Connect directly to local ground plane", 3 CTRL (in) "Current Control and Shutdown Pin.This pin is used to program the LED output current. This pin is strobed up to 32 times to decrement the internal 5-bit dacs from full-scale to 1LSB. The counter will stop at 1LSB if the (See Datasheet)", 4 LED (power) "LED Pin. An internal switch connects this pin to CAP. The top of the LED string is connected to this pin. When the part is in shutdown, the LED pin is switched off from CAP so no current runs through the leds. The switch is (See Datasheet)", 5 CAP "Output Pin. Connect to output capacitor.Minimize trace between this pin and output capacitor to reduce EMI", 6 SW "Switch Pin. Connect inductor between this pin and the VIN pin. Minimize inductance at this pin to minimize EMI", 7 EP (power) "Ground. The Exposed Pad must be soldered to the PCB."